# Altium schematic symbol library PJ-085AH.Schlib: 1 symbol
Pins are listed as number, name and electrical type; pins without a type are passive.

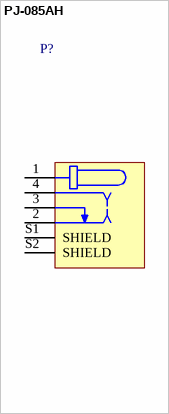
[diagram p0: symbol PJ-085AH]

## PJ-085AH
designator P?
5A DC POWER JACK
pins: 1, 2, 3, 4, S1 SHIELD, S2 SHIELD